# Altium footprint library L27.PcbLib: 8 footprints
Each footprint in its own frame and in the unit in brackets; x right, y up, seen from the top. Pads: shape width x height; smd on the part's side, far side on the other; paste and mask are expansions set on the pad; w line width, h text height; cw(c..) or ccw(c..) is an arc to the next point about the centre after c.
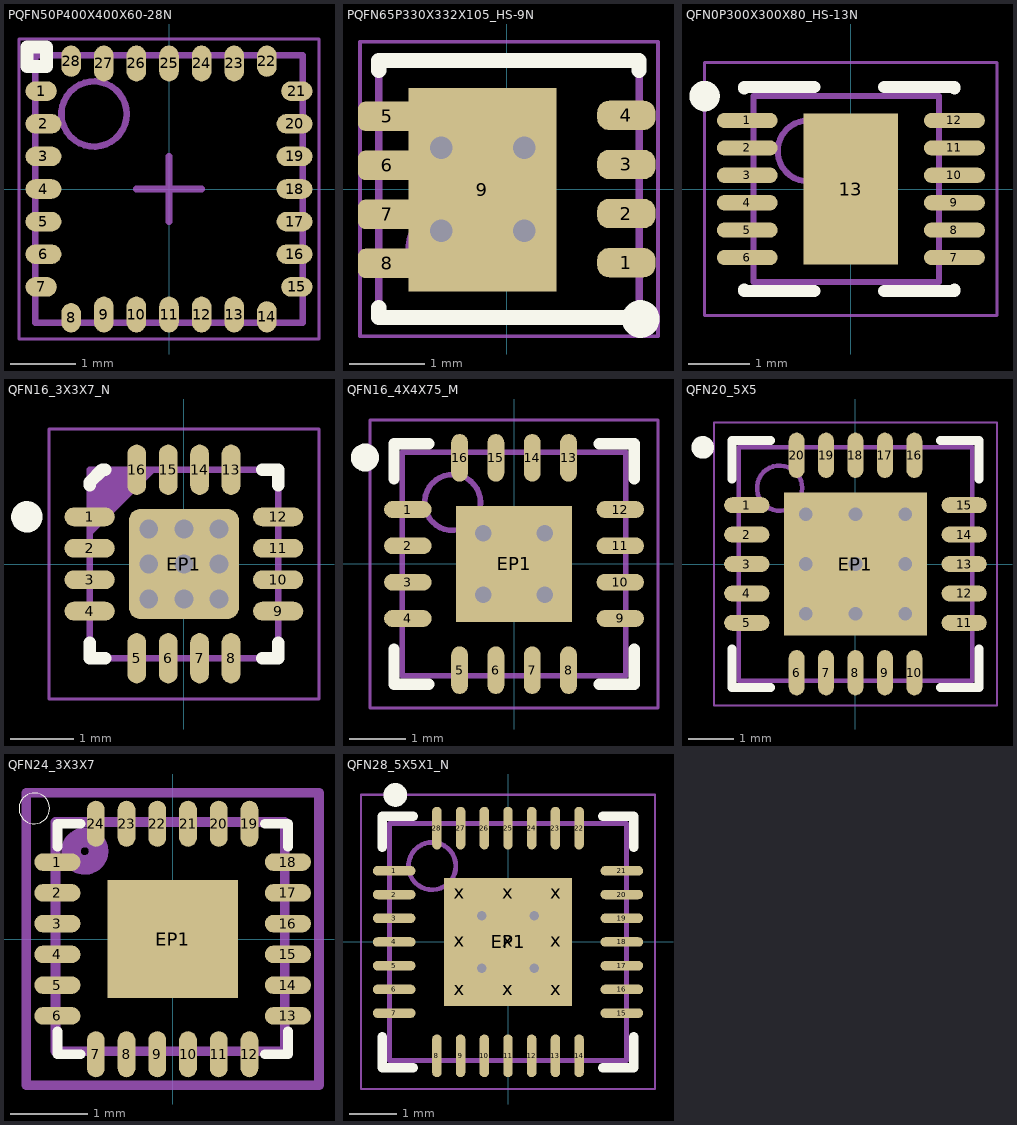
[diagram p0: the footprints below, top view; thin cyan lines are the x and y axes]

## PQFN50P400X400X60-28N [mm] "PQFN, 28-Leads, Body 4.00x4.00mm, Pitch 0.50mm, IPC Medium Density"
height 0.6
pads (28):
  oval 0.48x0.3 smd: 1(-1.96,1.5) 7(-1.96,-1.5) 15(1.96,-1.5) 21(1.96,1.5)
  oval 0.55x0.3 smd: 2(-1.925,1) 3(-1.925,0.5) 4(-1.925,0) 5(-1.925,-0.5) 6(-1.925,-1) 16(1.925,-1) 17(1.925,-0.5) 18(1.925,0) 19(1.925,0.5) 20(1.925,1)
  oval 0.3x0.45 smd: 8(-1.5,-1.975)
  oval 0.3x0.55 smd: 9(-1,-1.925) 10(-0.5,-1.925) 11(0,-1.925) 12(0.5,-1.925) 13(1,-1.925) 23(1,1.925) 24(0.5,1.925) 25(0,1.925) 26(-0.5,1.925) 27(-1,1.925)
  oval 0.3x0.48 smd: 14(1.5,-1.96) 22(1.5,1.96) 28(-1.5,1.96)
Top Overlay:
  lines w0.2: -2.175,1.875 -2.175,2.175 -1.875,2.175 -1.875,1.875 -2.175,1.875
Mechanical 2:
  circle w0.1: c-1.15,1.15 r0.5
  lines w0.1: -2.05,-2.05 -2.05,2.05 2.05,2.05 2.05,-2.05 -2.05,-2.05
Mechanical 4:
  lines w0.05: -2.3,-2.3 -2.3,2.3 2.3,2.3 2.3,-2.3 -2.3,-2.3
  lines w0.1: -0.5,0 0.5,0 ; 0,-0.5 0,0.5
3D body "PQFN50P400X400X60-28N.step": height 0.6, standoff 0, extent -2.05,-2.05 2.05,2.05

## PQFN65P330X332X105_HS-9N [mm] "PQFN, 8-Leads, Body 3.30x3.33mm, Pitch 0.65mm, Thermal Pad 2.34x1.80mm, IPC Medium Density"
height 1.05
pads (9):
  rrect80% 0.77x0.39 smd: 1(1.585,-0.969) 2(1.585,-0.319) 3(1.585,0.331) 4(1.585,0.981)
  rrect50% 0.77x0.39 smd: 5(-1.585,0.97) 6(-1.585,0.32) 7(-1.585,-0.33) 8(-1.585,-0.98)
  rect 1.96x2.7 smd paste-3 mask+0.102: 9(-0.322,-0.005)
via -0.866,-0.546 diameter 0.6 hole 0.3
via -0.866,0.554 diameter 0.6 hole 0.3
via 0.234,-0.546 diameter 0.6 hole 0.3
via 0.234,0.554 diameter 0.6 hole 0.3
Top Overlay:
  circle w0.25: c1.776,-1.717 r0.125
  lines w0.2: -1.695,-1.564 -1.695,-1.694 ; -1.695,1.576 -1.695,1.706 -0.24,1.706 ; -1.687,1.706 1.755,1.706 1.755,1.576 ; -0.24,-1.694 -1.695,-1.694 ; 1.755,-1.564 1.755,-1.694 -1.695,-1.694
Top Paste:
  rectangle: -1.303,-1.356 -0.823,-0.158
  region: 0.658,-0.157 0.178,-0.157 0.178,-1.355 0.658,-1.355
  rectangle: -0.563,-1.356 -0.082,-0.158
  rectangle: -0.563,0.148 -0.082,1.346
  region: 0.658,1.345 0.178,1.345 0.178,0.147 0.658,0.147
  rectangle: -1.303,0.148 -0.823,1.346
Top Solder:
  pour cut-out: -0.455,1.56 -0.237,1.56 -0.237,-1.607 -0.456,-1.607 -0.456,1.561
Mechanical 2:
  circle w0.1: c-0.795,-0.794 r0.5
  lines w0.1: -1.695,-1.694 -1.695,1.706 1.755,1.706 1.755,-1.694 -1.695,-1.694
Mechanical 4:
  lines w0.05: -1.945,-1.944 -1.945,1.956 2.005,1.956 2.005,-1.944 -1.945,-1.944
  lines w0.1: -0.47,0.006 0.53,0.006 ; 0.03,-0.494 0.03,0.506
3D body "PQFN65P330X332X105_HS-9N.step": height 1.05, standoff 0, extent -1.695,-1.695 1.755,1.705

## QFN0P300X300X80_HS-13N [mm] "QFN, 12-Leads, Body 3.00x3.00mm, Pitch 0.00mm/0.45mm, Thermal Pad 1.55x2.48mm, IPC Medium Density WDFN-12"
height 0.8
pads (13):
  oval 1x0.25 smd: 1(-1.7,1.125) 2(-1.7,0.675) 3(-1.7,0.225) 4(-1.7,-0.225) 5(-1.7,-0.675) 6(-1.7,-1.125) 7(1.7,-1.125) 8(1.7,-0.675) 9(1.7,-0.225) 10(1.7,0.225) 11(1.7,0.675) 12(1.7,1.125)
  rect 1.55x2.48 smd: 13(0,0)
Top Overlay:
  circle w0.25: c-2.4,1.525 r0.125
  lines w0.2: -1.75,-1.65 -1.75,-1.675 -0.6,-1.675 ; -1.75,1.65 -1.75,1.675 -0.6,1.675 ; 0.55,-1.675 1.7,-1.675 1.7,-1.65 ; 0.55,1.675 1.7,1.675 1.7,1.65
Mechanical 2:
  circle w0.1: c-0.7,0.625 r0.5
  lines w0.1: -1.6,-1.525 1.45,-1.525 1.45,1.525 -1.6,1.525 -1.6,-1.525
Mechanical 4:
  lines w0.05: -2.4,-2.075 2.4,-2.075 2.4,2.075 -2.4,2.075 -2.4,-2.075
  lines w0.1: -0.5,0 0.5,0 ; 0,-0.5 0,0.5
3D body "QFN0P300X300X80_HS-13N.step": height 0.8, standoff 0, extent -1.601,-1.525 1.451,1.525

## QFN16_3X3X7_N [mm] "QFN, 0.50mm Pitch, Square; 16 Pin, 3.00mm L X 3.00mm W X 0.80mm H Body (w/Thermal Tab 1.75 X 1.75mm),  IPC Medium Density"
height 0.8
pads (17):
  oval 0.8x0.3 smd mask+0: 1(-1.5,0.75) 12(1.5,0.75)
  oval 0.8x0.3 smd mask+0.05: 2(-1.5,0.25) 3(-1.5,-0.25) 4(-1.5,-0.75) 9(1.5,-0.75) 10(1.5,-0.25) 11(1.5,0.25)
  oval 0.3x0.8 smd mask+0.05: 5(-0.75,-1.5) 6(-0.25,-1.5) 7(0.25,-1.5) 8(0.75,-1.5) 13(0.75,1.5) 14(0.25,1.5) 15(-0.25,1.5) 16(-0.75,1.5)
  rrect20% 1.75x1.75 smd mask+0.05: EP1(0,0)
via 0,0 diameter 0.61 hole 0.3
via -0.559,0 diameter 0.61 hole 0.3
via 0,-0.559 diameter 0.61 hole 0.3
via 0.559,0 diameter 0.61 hole 0.3
via 0,0.559 diameter 0.61 hole 0.3
via -0.559,-0.559 diameter 0.61 hole 0.3
via -0.559,0.559 diameter 0.61 hole 0.3
via 0.559,0.559 diameter 0.61 hole 0.3
via 0.559,-0.559 diameter 0.61 hole 0.3
Top Overlay:
  circle w0.25: c-2.5,0.75 r0.125
  lines w0.2: -1.5,-1.25 -1.5,-1.5 -1.25,-1.5 ; -1.5,1.25 -1.5,1.3 -1.3,1.5 -1.25,1.5 ; 1.25,-1.5 1.5,-1.5 1.5,-1.25 ; 1.25,1.5 1.5,1.5 1.5,1.25
Mechanical 14:
  lines w0.1: -1.5,0.5 -0.5,1.5 ; -1.5,0.6 -0.6,1.5 ; -1.5,0.7 -0.7,1.5 ; -1.5,0.8 -0.8,1.5 ; -1.5,0.9 -0.9,1.5 ; -1.5,1 -1,1.5 ; -1.5,1.1 -1.1,1.5 ; -1.5,1.2 -1.2,1.5 ; -1.5,1.3 -1.3,1.5 ; -1.5,1.4 -1.4,1.5 ; -1.5,-1.5 1.5,-1.5 1.5,1.5 -1.5,1.5 -1.5,-1.5
Mechanical 15:
  circle w0.05: c0,0 r0.35
  lines w0.05: -0.5,0 0.5,0 ; 0,-0.5 0,0.5 ; -2.15,-2.15 2.15,-2.15 2.15,2.15 -2.15,2.15 -2.15,-2.15
Mechanical 17:
  text "'.Designator'" at -1.651,-0.254 h0.3
3D body "QFN50P300X300X80-17N-S175.stp": height 0.8, standoff 0, extent -1.575,-1.575 1.575,1.575

## QFN16_4X4X75_M [mm] "QFN, 16-Leads, Body 4,00x4,00mm, Pitch 0,65mm, Thermal Pad 2,08x2,08mm, IPC Medium Density"
height 0.75
pads (17):
  oval 0.85x0.3 smd: 1(-1.9,0.975) 2(-1.9,0.325) 3(-1.9,-0.325) 4(-1.9,-0.975) 9(1.9,-0.975) 10(1.9,-0.325) 11(1.9,0.325) 12(1.9,0.975)
  oval 0.3x0.85 smd: 5(-0.975,-1.9) 6(-0.325,-1.9) 7(0.325,-1.9) 8(0.975,-1.9) 13(0.975,1.9) 14(0.325,1.9) 15(-0.325,1.9) 16(-0.975,1.9)
  rect 2.08x2.08 smd: EP1(0,0)
via 0.55,-0.55 diameter 0.8 hole 0.3
via -0.55,-0.55 diameter 0.8 hole 0.3
via 0.55,0.55 diameter 0.8 hole 0.3
via -0.55,0.55 diameter 0.8 hole 0.3
Top Overlay:
  circle w0.25: c-2.667,1.905 r0.125
  lines w0.2: -2.15,-1.525 -2.15,-2.15 -1.525,-2.15 ; -2.15,1.525 -2.15,2.15 -1.525,2.15 ; 1.525,-2.15 2.15,-2.15 2.15,-1.525 ; 1.525,2.15 2.15,2.15 2.15,1.525
Mechanical 13:
  circle w0.1: c-1.1,1.1 r0.5
  lines w0.1: -2,-2 2,-2 2,2 -2,2 -2,-2
Mechanical 15:
  lines w0.05: -2.575,-2.575 2.575,-2.575 2.575,2.575 -2.575,2.575 -2.575,-2.575
  lines w0.1: -0.5,0 0.5,0 ; 0,-0.5 0,0.5
Mechanical 17:
  text "'.Designator'" at -2.159,-0.127 h0.4
3D body "User Library-SKY12209.step": height 1.5, standoff 0, extent -2,-2 2,2

## QFN20_5X5 [mm] "QFN, 20-Leads, Body 5,00x5,00mm, Pitch 0,65mm, Thermal Pad 3,15x3,15mm, IPC Medium Density"
height 1
pads (21):
  oval 1x0.35 smd: 1(-2.4,1.3) 2(-2.4,0.65) 3(-2.4,0) 4(-2.4,-0.65) 5(-2.4,-1.3) 11(2.4,-1.3) 12(2.4,-0.65) 13(2.4,0) 14(2.4,0.65) 15(2.4,1.3)
  oval 0.35x1 smd: 6(-1.3,-2.4) 7(-0.65,-2.4) 8(0,-2.4) 9(0.65,-2.4) 10(1.3,-2.4) 16(1.3,2.4) 17(0.65,2.4) 18(0,2.4) 19(-0.65,2.4) 20(-1.3,2.4)
  rect 3.15x3.15 smd: EP1(0,0)
via 1.1,-1.1 diameter 0.8 hole 0.3
via 0,-1.1 diameter 0.8 hole 0.3
via -1.1,-1.1 diameter 0.8 hole 0.3
via 1.1,0 diameter 0.8 hole 0.3
via 0,0 diameter 0.8 hole 0.3
via -1.1,0 diameter 0.8 hole 0.3
via 1.1,1.1 diameter 0.8 hole 0.3
via 0,1.1 diameter 0.8 hole 0.3
via -1.1,1.1 diameter 0.8 hole 0.3
Top Overlay:
  circle w0.25: c-3.375,2.575 r0.125
  lines w0.2: -2.725,-1.875 -2.725,-2.725 -1.875,-2.725 ; -2.725,1.875 -2.725,2.725 -1.875,2.725 ; 1.875,-2.725 2.725,-2.725 2.725,-1.875 ; 1.875,2.725 2.725,2.725 2.725,1.875
Mechanical 13:
  circle w0.1: c-1.675,1.675 r0.5
  lines w0.1: -2.575,-2.575 2.575,-2.575 2.575,2.575 -2.575,2.575 -2.575,-2.575
Mechanical 15:
  lines w0.05: -3.125,-3.125 3.125,-3.125 3.125,3.125 -3.125,3.125 -3.125,-3.125
  lines w0.1: -0.5,0 0.5,0 ; 0,-0.5 0,0.5
Mechanical 17:
  text "'.Designator'" at -2.286,-0.381 h0.4
3D body "User Library-VQFN-20-1.step": height 1.05, standoff 0, extent -2.625,-2.625 2.625,2.625

## QFN24_3X3X7 [mm]
pads (25):
  rrect100% 0.6x0.23 smd: 1(-1.5,1) 2(-1.5,0.6) 3(-1.5,0.2) 4(-1.5,-0.2) 5(-1.5,-0.6) 6(-1.5,-1) 13(1.5,-1) 14(1.5,-0.6) 15(1.5,-0.2) 16(1.5,0.2) 17(1.5,0.6) 18(1.5,1)
  rrect100% 0.23x0.6 smd: 7(-1,-1.5) 8(-0.6,-1.5) 9(-0.2,-1.5) 10(0.2,-1.5) 11(0.6,-1.5) 12(1,-1.5) 19(1,1.5) 20(0.6,1.5) 21(0.2,1.5) 22(-0.2,1.5) 23(-0.6,1.5) 24(-1,1.5)
  rect 1.7x1.54 smd: EP1(0,0)
Top Overlay:
  circle w0: c-1.8,1.7 r0.2
  lines w0.127: -1.5,-1.2 -1.5,-1.5 -1.2,-1.5 ; -1.5,1.2 -1.5,1.5 -1.2,1.5 ; 1.2,-1.5 1.5,-1.5 1.5,-1.2 ; 1.2,1.5 1.5,1.5 1.5,1.2
Mechanical 13:
  circle w0.254: c-1.143,1.143 r0.18
  lines w0.127: -1.524,-1.46 1.461,-1.46 1.461,1.524 -1.524,1.524 -1.524,-1.46
Mechanical 15:
  lines w0.127: -0.254,0 0.254,0 ; 0,-0.254 0,0.254 ; -1.905,-1.905 -1.905,1.905 1.905,1.905 1.905,-1.905 -1.905,-1.905
Mechanical 17:
  text "'.Designator'" at -1.778,-1.016 h0.3
3D body: height 1, standoff 0, extent -1.524,-1.46 1.461,1.524

## QFN28_5X5X1_N [mm] "28-Leads, Body 5x5mm, Pitch 0.5mm, Thermal Pad 2.7x2.7mm, IPC Medium Density"
height 0.9
pads (38):
  oval 0.9x0.2 smd: 1(-2.4,1.5) 2(-2.4,1) 3(-2.4,0.5) 4(-2.4,0) 5(-2.4,-0.5) 6(-2.4,-1) 7(-2.4,-1.5) 15(2.4,-1.5) 16(2.4,-1) 17(2.4,-0.5) 18(2.4,0) 19(2.4,0.5) 20(2.4,1) 21(2.4,1.5)
  oval 0.2x0.9 smd: 8(-1.5,-2.4) 9(-1,-2.4) 10(-0.5,-2.4) 11(0,-2.4) 12(0.5,-2.4) 13(1,-2.4) 14(1.5,-2.4) 22(1.5,2.4) 23(1,2.4) 24(0.5,2.4) 25(0,2.4) 26(-0.5,2.4) 27(-1,2.4) 28(-1.5,2.4)
  rect 2.7x2.7 smd paste-3.048: EP1(0,0)
  rect 0.508x0.508 on Top Paste: x(-1.016,-1.016) x(-1.016,0) x(-1.016,1.016) x(0,-1.016) x(0,1.016) x(1.016,-1.016) x(1.016,0) x(1.016,1.016)
  rect 0.762x0.762 on Top Paste: x(0,0)
via 0.55,-0.55 diameter 0.5 hole 0.2
via -0.55,-0.55 diameter 0.5 hole 0.2
via 0.55,0.55 diameter 0.5 hole 0.2
via -0.55,0.55 diameter 0.5 hole 0.2
Top Overlay:
  circle w0.25: c-2.375,3.1 r0.125
  lines w0.2: -2.65,-2 -2.65,-2.65 -2,-2.65 ; -2.65,2 -2.65,2.65 -2,2.65 ; 2,-2.65 2.65,-2.65 2.65,-2 ; 2,2.65 2.65,2.65 2.65,2
Mechanical 13:
  circle w0.1: c-1.6,1.6 r0.5
  lines w0.1: -2.5,-2.5 2.5,-2.5 2.5,2.5 -2.5,2.5 -2.5,-2.5
Mechanical 15:
  lines w0.05: -3.1,-3.1 3.1,-3.1 3.1,3.1 -3.1,3.1 -3.1,-3.1
  lines w0.1: -0.5,0 0.5,0 ; 0,-0.5 0,0.5
Mechanical 17:
  text "'.Designator'" at -1.651,-0.127 h0.51
Mechanical 19:
  text "'.Comment'" at -1.651,-0.127 h0.51
3D body "User Library-QFN28.step": height 0.9, standoff 0, extent -2.52,-2.52 2.52,2.52